# Altium footprint library Modules.PcbLib: 1 footprints
Each footprint in its own frame and in the unit in brackets; x right, y up, seen from the top. Pads: shape width x height; smd on the part's side, far side on the other; paste and mask are expansions set on the pad; w line width, h text height; cw(c..) or ccw(c..) is an arc to the next point about the centre after c.
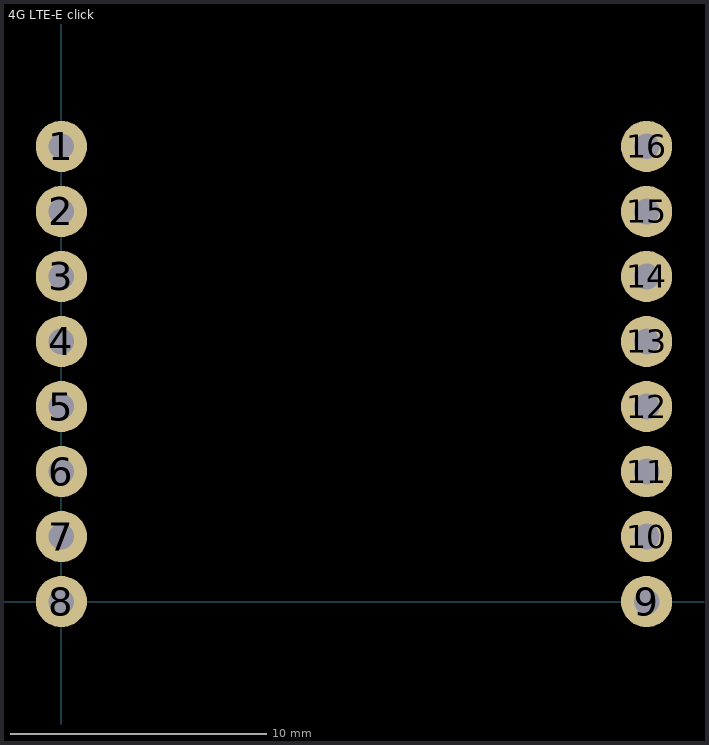
[diagram p0: the footprint, top view; thin cyan lines are the x and y axes]

## 4G LTE-E click [mm] "4G LTE-E click"
pads (16):
  round 2 hole 1 mask+0.05: 1(0,17.78) 2(0,15.24) 3(0,12.7) 4(0,10.16) 5(0,7.62) 6(0,5.08) 7(0,2.54) 8(0,0) 9(22.86,0) 10(22.86,2.54) 11(22.86,5.08) 12(22.86,7.62) 13(22.86,10.16) 14(22.86,12.7) 15(22.86,15.24) 16(22.86,17.78)
3D body "4G_LTE_click_v100.step": height 24.05, standoff 2.69, extent -1.829,-3.81 24.689,106.601
3D body "PINH-01x08.stp": height 8.5, standoff -3.2, extent -1.27,-1.27 1.27,19.05
3D body "PINH-01x08.stp": height 8.5, standoff -3.2, extent 21.59,-1.27 24.13,19.05